# Altium footprint library B3F4055S.PcbLib: 1 footprints
Each footprint in its own frame and in the unit in brackets; x right, y up, seen from the top. Pads: shape width x height; smd on the part's side, far side on the other; paste and mask are expansions set on the pad; w line width, h text height; cw(c..) or ccw(c..) is an arc to the next point about the centre after c.
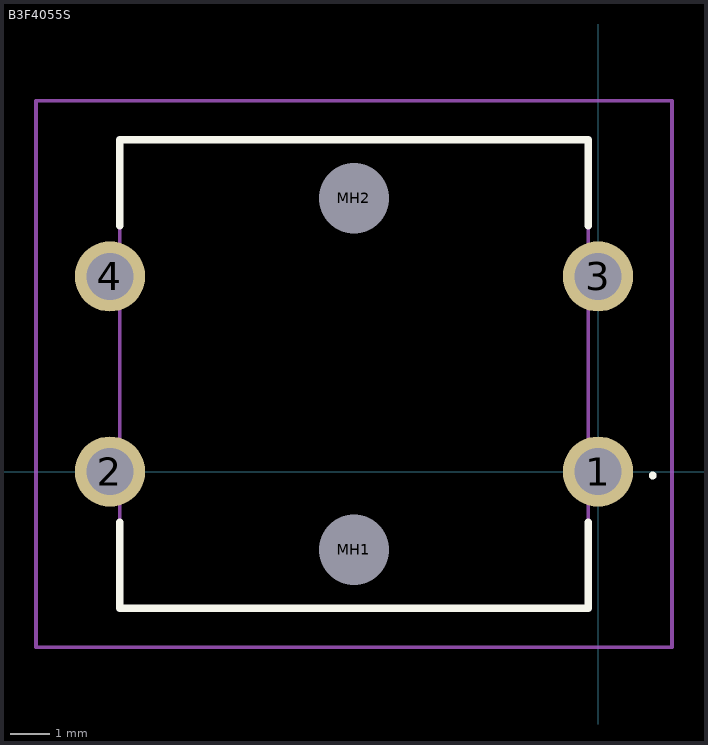
[diagram p0: the footprint, top view; thin cyan lines are the x and y axes]

## B3F4055S [mm]
pads (6):
  round 1.8 hole 1.2: 1(0,0) 2(-12.5,0) 3(0,5) 4(-12.5,5)
  round 0.9 hole 1.8 unplated: MH1(-6.25,-2) MH2(-6.25,7)
Top Overlay:
  lines w0.1: 1.35,-0.1 1.35,-0.1 ; 1.35,-0.1 ccw(c1.4,-0.1) 1.45,-0.1 ; 1.35,-0.1 cw(c1.4,-0.1) 1.45,-0.1 ; 1.45,-0.1 1.45,-0.1
  lines w0.2: -12.25,-1.3 -12.25,-3.5 -0.25,-3.5 -0.25,-1.3 ; -12.25,6.3 -12.25,8.5 -0.25,8.5 -0.25,6.3
Mechanical 15:
  lines w0.1: -12.25,-3.5 -0.25,-3.5 -0.25,8.5 -12.25,8.5 -12.25,-3.5
Mechanical 20:
  lines w0.1: -14.4,-4.5 1.9,-4.5 1.9,9.5 -14.4,9.5 -14.4,-4.5